# EAGLE library part MX25L6445E (library ic-Macronix)
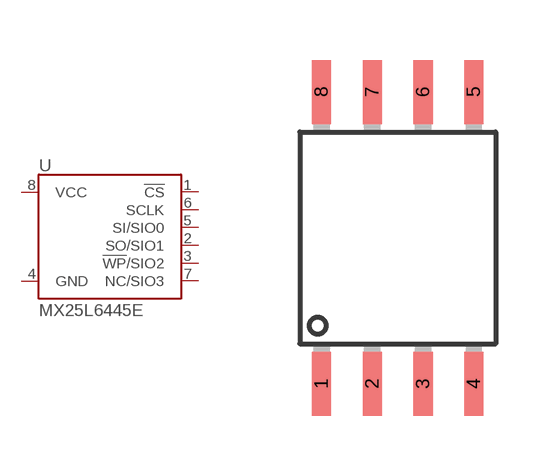
[diagram p0: symbol with the pads of SOP8W; footprint SOP8W]

Designator prefix U

## MX25L6445EM  [SOP8W]
1  !CS
2  SO/SIO1
3  !WP!/SIO2
4  GND
5  SI/SIO0
6  SCLK
7  NC/SIO3
8  VCC

## Footprint SOP8W (pad centres in mm)
smd 0.48 x 1.6: 1 -1.905,-3.65; 2 -0.635,-3.65; 3 0.635,-3.65; 4 1.905,-3.65; 5 1.905,3.65; 6 0.635,3.65; 7 -0.635,3.65; 8 -1.905,3.65